# Altium footprint library LQFP.PcbLib: 9 footprints
Each footprint in its own frame and in the unit in brackets; x right, y up, seen from the top. Pads: shape width x height; smd on the part's side, far side on the other; paste and mask are expansions set on the pad; w line width, h text height; cw(c..) or ccw(c..) is an arc to the next point about the centre after c.
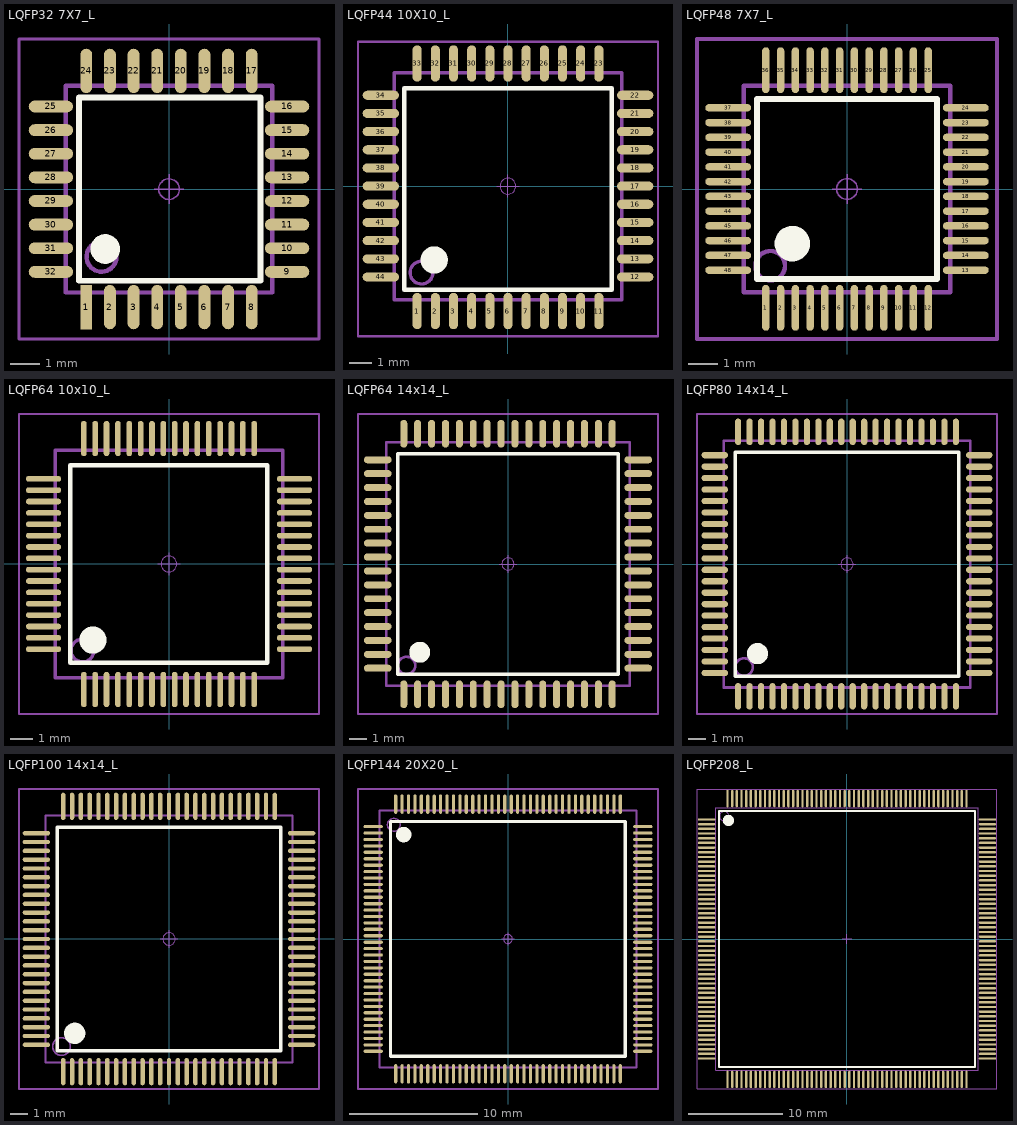
[diagram p0: the footprints below, top view; thin cyan lines are the x and y axes]

## LQFP32 7X7_L [mm] "32脚，体宽7x7mm，脚距0.8mm"
pads (32):
  rect 0.4x1.5 smd: 1(-2.8,-3.994)
  oval 0.4x1.5 smd: 2(-2,-3.994) 3(-1.2,-3.994) 4(-0.4,-3.994) 5(0.4,-3.994) 6(1.2,-3.994) 7(2,-3.994) 8(2.8,-3.994) 17(2.8,4.006) 18(2,4.006) 19(1.2,4.006) 20(0.4,4.006) 21(-0.4,4.006) 22(-1.2,4.006) 23(-2,4.006) 24(-2.8,4.006)
  oval 1.5x0.4 smd: 9(4,-2.8) 10(4,-2) 11(4,-1.2) 12(4,-0.4) 13(4,0.4) 14(4,1.2) 15(4,2) 16(4,2.8) 25(-4,2.8) 26(-4,2) 27(-4,1.2) 28(-4,0.4) 29(-4,-0.4) 30(-4,-1.2) 31(-4,-2) 32(-4,-2.8)
Top Overlay:
  circle w0.5: c-2.159,-2.026 r0.25
  lines w0.2: -3.048,-3.1 3.1,-3.1 3.1,3.1 -3.048,3.1 -3.048,-3.1
Mechanical 13:
  circle w0.15: c-2.286,-2.286 r0.508
  lines w0.15: -3.5,-3.5 3.5,-3.5 3.5,3.5 -3.5,3.5 -3.5,-3.5
Mechanical 15:
  circle w0.05: c0,0 r0.35
  lines w0.05: -0.5,0 0.5,0 ; 0,-0.5 0,0.5
  lines w0.1: -5.08,-5.074 5.08,-5.074 5.08,5.086 -5.08,5.086 -5.08,-5.074
3D body "LQFP32-7x7.STEP": height 1.45, standoff 0, extent -4.5,-4.5 4.5,4.5

## LQFP44 10X10_L [mm] "44脚，体宽10x10mm，脚距0.8mm"
pads (44):
  oval 0.4x1.6 smd: 1(-4,-5.5) 2(-3.2,-5.5) 3(-2.4,-5.5) 4(-1.6,-5.5) 5(-0.8,-5.5) 6(0,-5.5) 7(0.8,-5.5) 8(1.6,-5.5) 9(2.4,-5.5) 10(3.2,-5.5) 11(4,-5.5) 23(4,5.4) 24(3.2,5.4) 25(2.4,5.4) 26(1.6,5.4) 27(0.8,5.4) 28(0,5.4) 29(-0.8,5.4) 30(-1.6,5.4) 31(-2.4,5.4) 32(-3.2,5.4) 33(-4,5.4)
  oval 1.6x0.4 smd: 12(5.6,-4) 13(5.6,-3.2) 14(5.6,-2.4) 15(5.6,-1.6) 16(5.6,-0.8) 17(5.6,0) 18(5.6,0.8) 19(5.6,1.6) 20(5.6,2.4) 21(5.6,3.2) 22(5.6,4) 34(-5.6,4) 35(-5.6,3.2) 36(-5.6,2.4) 37(-5.6,1.6) 38(-5.6,0.8) 39(-5.6,0) 40(-5.6,-0.8) 41(-5.6,-1.6) 42(-5.6,-2.4) 43(-5.6,-3.2) 44(-5.6,-4)
Top Overlay:
  circle w0.6: c-3.25,-3.25 r0.3
  lines w0.2: -4.572,-4.572 -4.572,4.318 4.572,4.318 4.572,-4.572 -4.572,-4.572
Mechanical 13:
  circle w0.15: c-3.81,-3.81 r0.5
  lines w0.15: -5,-5 5,-5 5,5 -5,5 -5,-5
Mechanical 15:
  circle w0.05: c0,0 r0.35
  lines w0.05: -0.5,0 0.5,0 ; 0,-0.5 0,0.5
  lines w0.1: -6.604,-6.604 -6.604,6.35 6.604,6.35 6.604,-6.604 -6.604,-6.604
3D body "LQFP44-10x10.STEP": height 1.45, standoff 0, extent -6,-6 6,6

## LQFP48 7X7_L [mm] "48脚，体宽7x7mm，脚距0.5mm"
height 1.6
pads (48):
  oval 0.25x1.55 smd: 1(-2.75,-4.025) 2(-2.25,-4.025) 3(-1.75,-4.025) 4(-1.25,-4.025) 5(-0.75,-4.025) 6(-0.25,-4.025) 7(0.25,-4.025) 8(0.75,-4.025) 9(1.25,-4.025) 10(1.75,-4.025) 11(2.25,-4.025) 12(2.75,-4.025) 25(2.75,4.025) 26(2.25,4.025) 27(1.75,4.025) 28(1.25,4.025) 29(0.75,4.025) 30(0.25,4.025) 31(-0.25,4.025) 32(-0.75,4.025) 33(-1.25,4.025) 34(-1.75,4.025) 35(-2.25,4.025) 36(-2.75,4.025)
  oval 1.55x0.25 smd: 13(4.025,-2.75) 14(4.025,-2.25) 15(4.025,-1.75) 16(4.025,-1.25) 17(4.025,-0.75) 18(4.025,-0.25) 19(4.025,0.25) 20(4.025,0.75) 21(4.025,1.25) 22(4.025,1.75) 23(4.025,2.25) 24(4.025,2.75) 37(-4.025,2.75) 38(-4.025,2.25) 39(-4.025,1.75) 40(-4.025,1.25) 41(-4.025,0.75) 42(-4.025,0.25) 43(-4.025,-0.25) 44(-4.025,-0.75) 45(-4.025,-1.25) 46(-4.025,-1.75) 47(-4.025,-2.25) 48(-4.025,-2.75)
Top Overlay:
  circle w0.6: c-1.85,-1.85 r0.3
  lines w0.2: -3.048,-3.048 -3.048,3.048 3.048,3.048 3.048,-3.048 -3.048,-3.048
Mechanical 13:
  circle w0.15: c-2.6,-2.6 r0.5
  lines w0.15: -3.5,-3.5 -3.5,3.5 3.5,3.5 3.5,-3.5 -3.5,-3.5
Mechanical 15:
  circle w0.05: c0,0 r0.35
  lines w0.05: -0.5,0 0.5,0 ; 0,-0.5 0,0.5
  lines w0.15: -5.08,-5.08 -5.08,5.08 5.08,5.08 5.08,-5.08 -5.08,-5.08
3D body "LQFP48-7x7.STEP": height 1.45, standoff 0, extent -4.5,-4.5 4.5,4.5

## LQFP64 10x10_L [mm] "64脚，体宽10x10mm，脚距0.5mm"
height 1.6
pads (64):
  oval 0.25x1.55 smd: 1(-3.75,-5.525) 2(-3.25,-5.525) 3(-2.75,-5.525) 4(-2.25,-5.525) 5(-1.75,-5.525) 6(-1.25,-5.525) 7(-0.75,-5.525) 8(-0.25,-5.525) 9(0.25,-5.525) 10(0.75,-5.525) 11(1.25,-5.525) 12(1.75,-5.525) 13(2.25,-5.525) 14(2.75,-5.525) 15(3.25,-5.525) 16(3.75,-5.525) 33(3.75,5.525) 34(3.25,5.525) 35(2.75,5.525) 36(2.25,5.525) 37(1.75,5.525) 38(1.25,5.525) 39(0.75,5.525) 40(0.25,5.525) 41(-0.25,5.525) 42(-0.75,5.525) 43(-1.25,5.525) 44(-1.75,5.525) 45(-2.25,5.525) 46(-2.75,5.525) 47(-3.25,5.525) 48(-3.75,5.525)
  oval 1.55x0.25 smd: 17(5.525,-3.75) 18(5.525,-3.25) 19(5.525,-2.75) 20(5.525,-2.25) 21(5.525,-1.75) 22(5.525,-1.25) 23(5.525,-0.75) 24(5.525,-0.25) 25(5.525,0.25) 26(5.525,0.75) 27(5.525,1.25) 28(5.525,1.75) 29(5.525,2.25) 30(5.525,2.75) 31(5.525,3.25) 32(5.525,3.75) 49(-5.525,3.75) 50(-5.525,3.25) 51(-5.525,2.75) 52(-5.525,2.25) 53(-5.525,1.75) 54(-5.525,1.25) 55(-5.525,0.75) 56(-5.525,0.25) 57(-5.525,-0.25) 58(-5.525,-0.75) 59(-5.525,-1.25) 60(-5.525,-1.75) 61(-5.525,-2.25) 62(-5.525,-2.75) 63(-5.525,-3.25) 64(-5.525,-3.75)
Top Overlay:
  circle w0.6: c-3.35,-3.35 r0.3
  lines w0.2: -4.35,-4.35 4.318,-4.35 4.318,4.35 -4.35,4.35 -4.35,-4.35
Mechanical 13:
  circle w0.15: c-3.81,-3.81 r0.5
  lines w0.15: -5,-5 5,-5 5,5 -5,5 -5,-5
Mechanical 15:
  circle w0.05: c0,0 r0.35
  lines w0.05: -0.5,0 0.5,0 ; 0,-0.5 0,0.5
  lines w0.1: -6.604,-6.604 6.604,-6.604 6.604,6.604 -6.604,6.604 -6.604,-6.604
3D body "LQFP64-10x10.STEP": height 1.45, standoff 0, extent -6,-6 6,6

## LQFP64 14x14_L [mm] "64脚，体宽14x14mm，脚距0.8mm"
height 1.6
pads (64):
  oval 0.4x1.6 smd: 1(-6,-7.5) 2(-5.2,-7.5) 3(-4.4,-7.5) 4(-3.6,-7.5) 5(-2.8,-7.5) 6(-2,-7.5) 7(-1.2,-7.5) 8(-0.4,-7.5) 9(0.4,-7.5) 10(1.2,-7.5) 11(2,-7.5) 12(2.8,-7.5) 13(3.6,-7.5) 14(4.4,-7.5) 15(5.2,-7.5) 16(6,-7.5) 33(6,7.5) 34(5.2,7.5) 35(4.4,7.5) 36(3.6,7.5) 37(2.8,7.5) 38(2,7.5) 39(1.2,7.5) 40(0.4,7.5) 41(-0.4,7.5) 42(-1.2,7.5) 43(-2,7.5) 44(-2.8,7.5) 45(-3.6,7.5) 46(-4.4,7.5) 47(-5.2,7.5) 48(-6,7.5)
  oval 1.6x0.4 smd: 17(7.5,-6) 18(7.5,-5.2) 19(7.5,-4.4) 20(7.5,-3.6) 21(7.5,-2.8) 22(7.5,-2) 23(7.5,-1.2) 24(7.5,-0.4) 25(7.5,0.4) 26(7.5,1.2) 27(7.5,2) 28(7.5,2.8) 29(7.5,3.6) 30(7.5,4.4) 31(7.5,5.2) 32(7.5,6) 49(-7.5,6) 50(-7.5,5.2) 51(-7.5,4.4) 52(-7.5,3.6) 53(-7.5,2.8) 54(-7.5,2) 55(-7.5,1.2) 56(-7.5,0.4) 57(-7.5,-0.4) 58(-7.5,-1.2) 59(-7.5,-2) 60(-7.5,-2.8) 61(-7.5,-3.6) 62(-7.5,-4.4) 63(-7.5,-5.2) 64(-7.5,-6)
Top Overlay:
  circle w0.6: c-5.08,-5.08 r0.3
  lines w0.2: -6.35,-6.35 6.35,-6.35 6.35,6.35 -6.35,6.35 -6.35,-6.35
Mechanical 13:
  circle w0.15: c-5.842,-5.842 r0.5
  lines w0.15: -7,-7 7,-7 7,7 -7,7 -7,-7
Mechanical 15:
  circle w0.05: c0,0 r0.35
  lines w0.05: -0.5,0 0.5,0 ; 0,-0.5 0,0.5
  lines w0.1: -8.636,-8.636 8.636,-8.636 8.636,8.636 -8.636,8.636 -8.636,-8.636
3D body "LQFP64-14x14.STEP": height 1.45, standoff 0, extent -8,-8 8,8

## LQFP80 14x14_L [mm] "80脚，体宽14x14mm，脚距0.65mm"
height 1.6
pads (80):
  oval 0.35x1.5 smd: 1(-6.175,-7.5) 2(-5.525,-7.5) 3(-4.875,-7.5) 4(-4.225,-7.5) 5(-3.575,-7.5) 6(-2.925,-7.5) 7(-2.275,-7.5) 8(-1.625,-7.5) 9(-0.975,-7.5) 10(-0.325,-7.5) 11(0.325,-7.5) 12(0.975,-7.5) 13(1.625,-7.5) 14(2.275,-7.5) 15(2.925,-7.5) 16(3.575,-7.5) 17(4.225,-7.5) 18(4.875,-7.5) 19(5.525,-7.5) 20(6.175,-7.5) 41(6.175,7.5) 42(5.525,7.5) 43(4.875,7.5) 44(4.225,7.5) 45(3.575,7.5) 46(2.925,7.5) 47(2.275,7.5) 48(1.625,7.5) 49(0.975,7.5) 50(0.325,7.5) 51(-0.325,7.5) 52(-0.975,7.5) 53(-1.625,7.5) 54(-2.275,7.5) 55(-2.925,7.5) 56(-3.575,7.5) 57(-4.225,7.5) 58(-4.875,7.5) 59(-5.525,7.5) 60(-6.175,7.5)
  oval 1.5x0.35 smd: 21(7.5,-6.175) 22(7.5,-5.525) 23(7.5,-4.875) 24(7.5,-4.225) 25(7.5,-3.575) 26(7.5,-2.925) 27(7.5,-2.275) 28(7.5,-1.625) 29(7.5,-0.975) 30(7.5,-0.325) 31(7.5,0.325) 32(7.5,0.975) 33(7.5,1.625) 34(7.5,2.275) 35(7.5,2.925) 36(7.5,3.575) 37(7.5,4.225) 38(7.5,4.875) 39(7.5,5.525) 40(7.5,6.175) 61(-7.5,6.175) 62(-7.5,5.525) 63(-7.5,4.875) 64(-7.5,4.225) 65(-7.5,3.575) 66(-7.5,2.925) 67(-7.5,2.275) 68(-7.5,1.625) 69(-7.5,0.975) 70(-7.5,0.325) 71(-7.5,-0.325) 72(-7.5,-0.975) 73(-7.5,-1.625) 74(-7.5,-2.275) 75(-7.5,-2.925) 76(-7.5,-3.575) 77(-7.5,-4.225) 78(-7.5,-4.875) 79(-7.5,-5.525) 80(-7.5,-6.175)
Top Overlay:
  circle w0.6: c-5.08,-5.08 r0.3
  lines w0.2: -6.35,-6.35 6.35,-6.35 6.35,6.35 -6.35,6.35 -6.35,-6.35
Mechanical 13:
  circle w0.15: c-5.842,-5.842 r0.5
  lines w0.15: -7,-7 7,-7 7,7 -7,7 -7,-7
Mechanical 15:
  circle w0.05: c0,0 r0.35
  lines w0.05: -0.5,0 0.5,0 ; 0,-0.5 0,0.5
  lines w0.1: -8.509,-8.5 8.509,-8.5 8.509,8.509 -8.509,8.509 -8.509,-8.5
3D body "LQFP80-14x14.STEP": height 1.45, standoff 0, extent -8,-8 8,8

## LQFP100 14x14_L [mm] "100脚，体宽14x14mm，脚距0.5mm"
height 1.6
pads (100):
  oval 0.25x1.55 smd: 1(-6,-7.525) 2(-5.5,-7.525) 3(-5,-7.525) 4(-4.5,-7.525) 5(-4,-7.525) 6(-3.5,-7.525) 7(-3,-7.525) 8(-2.5,-7.525) 9(-2,-7.525) 10(-1.5,-7.525) 11(-1,-7.525) 12(-0.5,-7.525) 13(0,-7.525) 14(0.5,-7.525) 15(1,-7.525) 16(1.5,-7.525) 17(2,-7.525) 18(2.5,-7.525) 19(3,-7.525) 20(3.5,-7.525) 21(4,-7.525) 22(4.5,-7.525) 23(5,-7.525) 24(5.5,-7.525) 25(6,-7.525) 51(6,7.525) 52(5.5,7.525) 53(5,7.525) 54(4.5,7.525) 55(4,7.525) 56(3.5,7.525) 57(3,7.525) 58(2.5,7.525) 59(2,7.525) 60(1.5,7.525) 61(1,7.525) 62(0.5,7.525) 63(0,7.525) 64(-0.5,7.525) 65(-1,7.525) 66(-1.5,7.525) 67(-2,7.525) 68(-2.5,7.525) 69(-3,7.525) 70(-3.5,7.525) 71(-4,7.525) 72(-4.5,7.525) 73(-5,7.525) 74(-5.5,7.525) 75(-6,7.525)
  oval 1.55x0.25 smd: 26(7.525,-6) 27(7.525,-5.5) 28(7.525,-5) 29(7.525,-4.5) 30(7.525,-4) 31(7.525,-3.5) 32(7.525,-3) 33(7.525,-2.5) 34(7.525,-2) 35(7.525,-1.5) 36(7.525,-1) 37(7.525,-0.5) 38(7.525,0) 39(7.525,0.5) 40(7.525,1) 41(7.525,1.5) 42(7.525,2) 43(7.525,2.5) 44(7.525,3) 45(7.525,3.5) 46(7.525,4) 47(7.525,4.5) 48(7.525,5) 49(7.525,5.5) 50(7.525,6) 76(-7.525,6) 77(-7.525,5.5) 78(-7.525,5) 79(-7.525,4.5) 80(-7.525,4) 81(-7.525,3.5) 82(-7.525,3) 83(-7.525,2.5) 84(-7.525,2) 85(-7.525,1.5) 86(-7.525,1) 87(-7.525,0.5) 88(-7.525,0) 89(-7.525,-0.5) 90(-7.525,-1) 91(-7.525,-1.5) 92(-7.525,-2) 93(-7.525,-2.5) 94(-7.525,-3) 95(-7.525,-3.5) 96(-7.525,-4) 97(-7.525,-4.5) 98(-7.525,-5) 99(-7.525,-5.5) 100(-7.525,-6)
Top Overlay:
  circle w0.6: c-5.35,-5.35 r0.3
  lines w0.2: -6.35,-6.35 6.35,-6.35 6.35,6.35 -6.35,6.35 -6.35,-6.35
Mechanical 13:
  circle w0.1: c-6.1,-6.1 r0.5
  lines w0.1: -7,-7 7,-7 7,7 -7,7 -7,-7
Mechanical 15:
  circle w0.05: c0,0 r0.35
  lines w0.05: -0.5,0 0.5,0 ; 0,-0.5 0,0.5
  lines w0.1: -8.509,-8.509 8.509,-8.509 8.509,8.509 -8.509,8.509 -8.509,-8.509
3D body "LQFP100-14x14.STEP": height 1.45, standoff 0, extent -8,-8 8,8

## LQFP144 20X20_L [mm] "144脚，体宽20x20mm，脚距0.5mm"
pads (144):
  oval 1.5x0.25 smd: 1(-10.5,8.752) 2(-10.5,8.252) 3(-10.5,7.752) 4(-10.5,7.252) 5(-10.5,6.752) 6(-10.5,6.252) 7(-10.5,5.752) 8(-10.5,5.252) 9(-10.5,4.752) 10(-10.5,4.252) 11(-10.5,3.752) 12(-10.5,3.252) 13(-10.5,2.752) 14(-10.5,2.252) 15(-10.5,1.752) 16(-10.5,1.252) 17(-10.5,0.752) 18(-10.5,0.252) 19(-10.5,-0.248) 20(-10.5,-0.748) 21(-10.5,-1.248) 22(-10.5,-1.748) 23(-10.5,-2.248) 24(-10.5,-2.748) 25(-10.5,-3.248) 26(-10.5,-3.748) 27(-10.5,-4.248) 28(-10.5,-4.748) 29(-10.5,-5.248) 30(-10.5,-5.748) 31(-10.5,-6.248) 32(-10.5,-6.748) 33(-10.5,-7.248) 34(-10.5,-7.748) 35(-10.5,-8.248) 36(-10.5,-8.748) 73(10.5,-8.748) 74(10.5,-8.248) 75(10.5,-7.748) 76(10.5,-7.248) 77(10.5,-6.748) 78(10.5,-6.248) 79(10.5,-5.748) 80(10.5,-5.248) 81(10.5,-4.748) 82(10.5,-4.248) 83(10.5,-3.748) 84(10.5,-3.248) 85(10.5,-2.748) 86(10.5,-2.248) 87(10.5,-1.748) 88(10.5,-1.248) 89(10.5,-0.748) 90(10.5,-0.248) 91(10.5,0.252) 92(10.5,0.752) 93(10.5,1.252) 94(10.5,1.752) 95(10.5,2.252) 96(10.5,2.752) 97(10.5,3.252) 98(10.5,3.752) 99(10.5,4.252) 100(10.5,4.752) 101(10.5,5.252) 102(10.5,5.752) 103(10.5,6.252) 104(10.5,6.752) 105(10.5,7.252) 106(10.5,7.752) 107(10.5,8.252) 108(10.5,8.752)
  oval 0.25x1.5 smd: 37(-8.75,-10.498) 38(-8.25,-10.498) 39(-7.75,-10.498) 40(-7.25,-10.498) 41(-6.75,-10.498) 42(-6.25,-10.498) 43(-5.75,-10.498) 44(-5.25,-10.498) 45(-4.75,-10.498) 46(-4.25,-10.498) 47(-3.75,-10.498) 48(-3.25,-10.498) 49(-2.75,-10.498) 50(-2.25,-10.498) 51(-1.75,-10.498) 52(-1.25,-10.498) 53(-0.75,-10.498) 54(-0.25,-10.498) 55(0.25,-10.498) 56(0.75,-10.498) 57(1.25,-10.498) 58(1.75,-10.498) 59(2.25,-10.498) 60(2.75,-10.498) 61(3.25,-10.498) 62(3.75,-10.498) 63(4.25,-10.498) 64(4.75,-10.498) 65(5.25,-10.498) 66(5.75,-10.498) 67(6.25,-10.498) 68(6.75,-10.498) 69(7.25,-10.498) 70(7.75,-10.498) 71(8.25,-10.498) 72(8.75,-10.498) 109(8.75,10.502) 110(8.25,10.502) 111(7.75,10.502) 112(7.25,10.502) 113(6.75,10.502) 114(6.25,10.502) 115(5.75,10.502) 116(5.25,10.502) 117(4.75,10.502) 118(4.25,10.502) 119(3.75,10.502) 120(3.25,10.502) 121(2.75,10.502) 122(2.25,10.502) 123(1.75,10.502) 124(1.25,10.502) 125(0.75,10.502) 126(0.25,10.502) 127(-0.25,10.502) 128(-0.75,10.502) 129(-1.25,10.502) 130(-1.75,10.502) 131(-2.25,10.502) 132(-2.75,10.502) 133(-3.25,10.502) 134(-3.75,10.502) 135(-4.25,10.502) 136(-4.75,10.502) 137(-5.25,10.502) 138(-5.75,10.502) 139(-6.25,10.502) 140(-6.75,10.502) 141(-7.25,10.502) 142(-7.75,10.502) 143(-8.25,10.502) 144(-8.75,10.502)
Top Overlay:
  circle w0.6: c-8.13,8.13 r0.3
  lines w0.254: -9.146,-9.142 -9.146,9.146 9.142,9.146 9.142,-9.142 -9.146,-9.142
Mechanical 13:
  circle w0.1: c-8.894,8.895 r0.5
  lines w0.15: -10,-9.998 10,-9.998 10,10.002 -10,10.002 -10,-9.998
Mechanical 15:
  circle w0.05: c0,0.002 r0.35
  lines w0.05: -0.5,0.002 0.5,0.002 ; 0,-0.498 0,0.502
  lines w0.15: -11.684,-11.684 -11.684,11.684 11.684,11.684 11.684,-11.684 -11.684,-11.684
3D body "LQFP144-20x20.STEP": height 1.45, standoff 0, extent -11,-10.998 11,11.002

## LQFP208_L [mm] "Shrink QFP, 208-Leads, Body 28x28mm, Pitch 0.5mm, IPC High Density"
height 4.3
pads (208):
  oval 1.85x0.25 smd: 1(-14.975,12.75) 2(-14.975,12.25) 3(-14.975,11.75) 4(-14.975,11.25) 5(-14.975,10.75) 6(-14.975,10.25) 7(-14.975,9.75) 8(-14.975,9.25) 9(-14.975,8.75) 10(-14.975,8.25) 11(-14.975,7.75) 12(-14.975,7.25) 13(-14.975,6.75) 14(-14.975,6.25) 15(-14.975,5.75) 16(-14.975,5.25) 17(-14.975,4.75) 18(-14.975,4.25) 19(-14.975,3.75) 20(-14.975,3.25) 21(-14.975,2.75) 22(-14.975,2.25) 23(-14.975,1.75) 24(-14.975,1.25) 25(-14.975,0.75) 26(-14.975,0.25) 27(-14.975,-0.25) 28(-14.975,-0.75) 29(-14.975,-1.25) 30(-14.975,-1.75) 31(-14.975,-2.25) 32(-14.975,-2.75) 33(-14.975,-3.25) 34(-14.975,-3.75) 35(-14.975,-4.25) 36(-14.975,-4.75) 37(-14.975,-5.25) 38(-14.975,-5.75) 39(-14.975,-6.25) 40(-14.975,-6.75) 41(-14.975,-7.25) 42(-14.975,-7.75) 43(-14.975,-8.25) 44(-14.975,-8.75) 45(-14.975,-9.25) 46(-14.975,-9.75) 47(-14.975,-10.25) 48(-14.975,-10.75) 49(-14.975,-11.25) 50(-14.975,-11.75) 51(-14.975,-12.25) 52(-14.975,-12.75) 105(14.975,-12.75) 106(14.975,-12.25) 107(14.975,-11.75) 108(14.975,-11.25) 109(14.975,-10.75) 110(14.975,-10.25) 111(14.975,-9.75) 112(14.975,-9.25) 113(14.975,-8.75) 114(14.975,-8.25) 115(14.975,-7.75) 116(14.975,-7.25) 117(14.975,-6.75) 118(14.975,-6.25) 119(14.975,-5.75) 120(14.975,-5.25) 121(14.975,-4.75) 122(14.975,-4.25) 123(14.975,-3.75) 124(14.975,-3.25) 125(14.975,-2.75) 126(14.975,-2.25) 127(14.975,-1.75) 128(14.975,-1.25) 129(14.975,-0.75) 130(14.975,-0.25) 131(14.975,0.25) 132(14.975,0.75) 133(14.975,1.25) 134(14.975,1.75) 135(14.975,2.25) 136(14.975,2.75) 137(14.975,3.25) 138(14.975,3.75) 139(14.975,4.25) 140(14.975,4.75) 141(14.975,5.25) 142(14.975,5.75) 143(14.975,6.25) 144(14.975,6.75) 145(14.975,7.25) 146(14.975,7.75) 147(14.975,8.25) 148(14.975,8.75) 149(14.975,9.25) 150(14.975,9.75) 151(14.975,10.25) 152(14.975,10.75) 153(14.975,11.25) 154(14.975,11.75) 155(14.975,12.25) 156(14.975,12.75)
  oval 0.25x1.85 smd: 53(-12.75,-14.975) 54(-12.25,-14.975) 55(-11.75,-14.975) 56(-11.25,-14.975) 57(-10.75,-14.975) 58(-10.25,-14.975) 59(-9.75,-14.975) 60(-9.25,-14.975) 61(-8.75,-14.975) 62(-8.25,-14.975) 63(-7.75,-14.975) 64(-7.25,-14.975) 65(-6.75,-14.975) 66(-6.25,-14.975) 67(-5.75,-14.975) 68(-5.25,-14.975) 69(-4.75,-14.975) 70(-4.25,-14.975) 71(-3.75,-14.975) 72(-3.25,-14.975) 73(-2.75,-14.975) 74(-2.25,-14.975) 75(-1.75,-14.975) 76(-1.25,-14.975) 77(-0.75,-14.975) 78(-0.25,-14.975) 79(0.25,-14.975) 80(0.75,-14.975) 81(1.25,-14.975) 82(1.75,-14.975) 83(2.25,-14.975) 84(2.75,-14.975) 85(3.25,-14.975) 86(3.75,-14.975) 87(4.25,-14.975) 88(4.75,-14.975) 89(5.25,-14.975) 90(5.75,-14.975) 91(6.25,-14.975) 92(6.75,-14.975) 93(7.25,-14.975) 94(7.75,-14.975) 95(8.25,-14.975) 96(8.75,-14.975) 97(9.25,-14.975) 98(9.75,-14.975) 99(10.25,-14.975) 100(10.75,-14.975) 101(11.25,-14.975) 102(11.75,-14.975) 103(12.25,-14.975) 104(12.75,-14.975) 157(12.75,14.975) 158(12.25,14.975) 159(11.75,14.975) 160(11.25,14.975) 161(10.75,14.975) 162(10.25,14.975) 163(9.75,14.975) 164(9.25,14.975) 165(8.75,14.975) 166(8.25,14.975) 167(7.75,14.975) 168(7.25,14.975) 169(6.75,14.975) 170(6.25,14.975) 171(5.75,14.975) 172(5.25,14.975) 173(4.75,14.975) 174(4.25,14.975) 175(3.75,14.975) 176(3.25,14.975) 177(2.75,14.975) 178(2.25,14.975) 179(1.75,14.975) 180(1.25,14.975) 181(0.75,14.975) 182(0.25,14.975) 183(-0.25,14.975) 184(-0.75,14.975) 185(-1.25,14.975) 186(-1.75,14.975) 187(-2.25,14.975) 188(-2.75,14.975) 189(-3.25,14.975) 190(-3.75,14.975) 191(-4.25,14.975) 192(-4.75,14.975) 193(-5.25,14.975) 194(-5.75,14.975) 195(-6.25,14.975) 196(-6.75,14.975) 197(-7.25,14.975) 198(-7.75,14.975) 199(-8.25,14.975) 200(-8.75,14.975) 201(-9.25,14.975) 202(-9.75,14.975) 203(-10.25,14.975) 204(-10.75,14.975) 205(-11.25,14.975) 206(-11.75,14.975) 207(-12.25,14.975) 208(-12.75,14.975)
Top Overlay:
  circle w0.6: c-12.65,12.65 r0.3
  lines w0.2: -13.65,-13.65 -13.65,13.65 13.65,13.65 13.65,-13.65 -13.65,-13.65
Mechanical 13:
  circle w0.1: c-13.1,13.1 r0.5
  lines w0.1: -14,-14 -14,14 14,14 14,-14 -14,-14
Mechanical 15:
  lines w0.1: -0.5,0 0.5,0 ; 0,-0.5 0,0.5 ; -16,-16 -16,16 16,16 16,-16 -16,-16
3D body "PQ208.STEP": height 4.15, standoff -0.08, extent -15.309,-15.249 15.291,15.351